# EAGLE library part AS-ITM-00062 (library tinycircuits)
IC CURRENT SENSE 60V CMN MDE BI-DIR DGK( S-PDSO-G8)
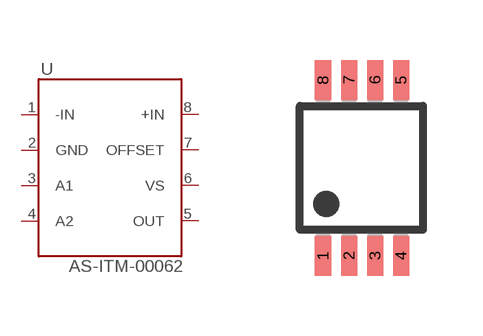
[diagram p19: symbol with the pads of DGK_S-PDSO-G8; footprint DGK_S-PDSO-G8]

Designator prefix U

## AS-ITM-00062 (PARTNO: AS-ITM-00062; VALUE: LMP8603)  [DGK_S-PDSO-G8]
1  -IN
2  GND
3  A1
4  A2
5  OUT
6  VS
7  OFFSET
8  +IN

## Footprint DGK_S-PDSO-G8 (pad centres in mm)
DGK (S-PDSO-G8) Source: http://focus.ti.com/lit/ds/scas794/scas794.pdf
smd 0.4 x 1: 1 -0.975,-2.2; 2 -0.325,-2.2; 3 0.325,-2.2; 4 0.975,-2.2; 5 0.975,2.2; 6 0.325,2.2; 7 -0.325,2.2; 8 -0.975,2.2